# Altium footprint library 封装库.PCBLIB: 282 footprints (part 16 of 18)
Each footprint in its own frame and in the unit in brackets; x right, y up, seen from the top. Pads: shape width x height; smd on the part's side, far side on the other; paste and mask are expansions set on the pad; w line width, h text height; cw(c..) or ccw(c..) is an arc to the next point about the centre after c.
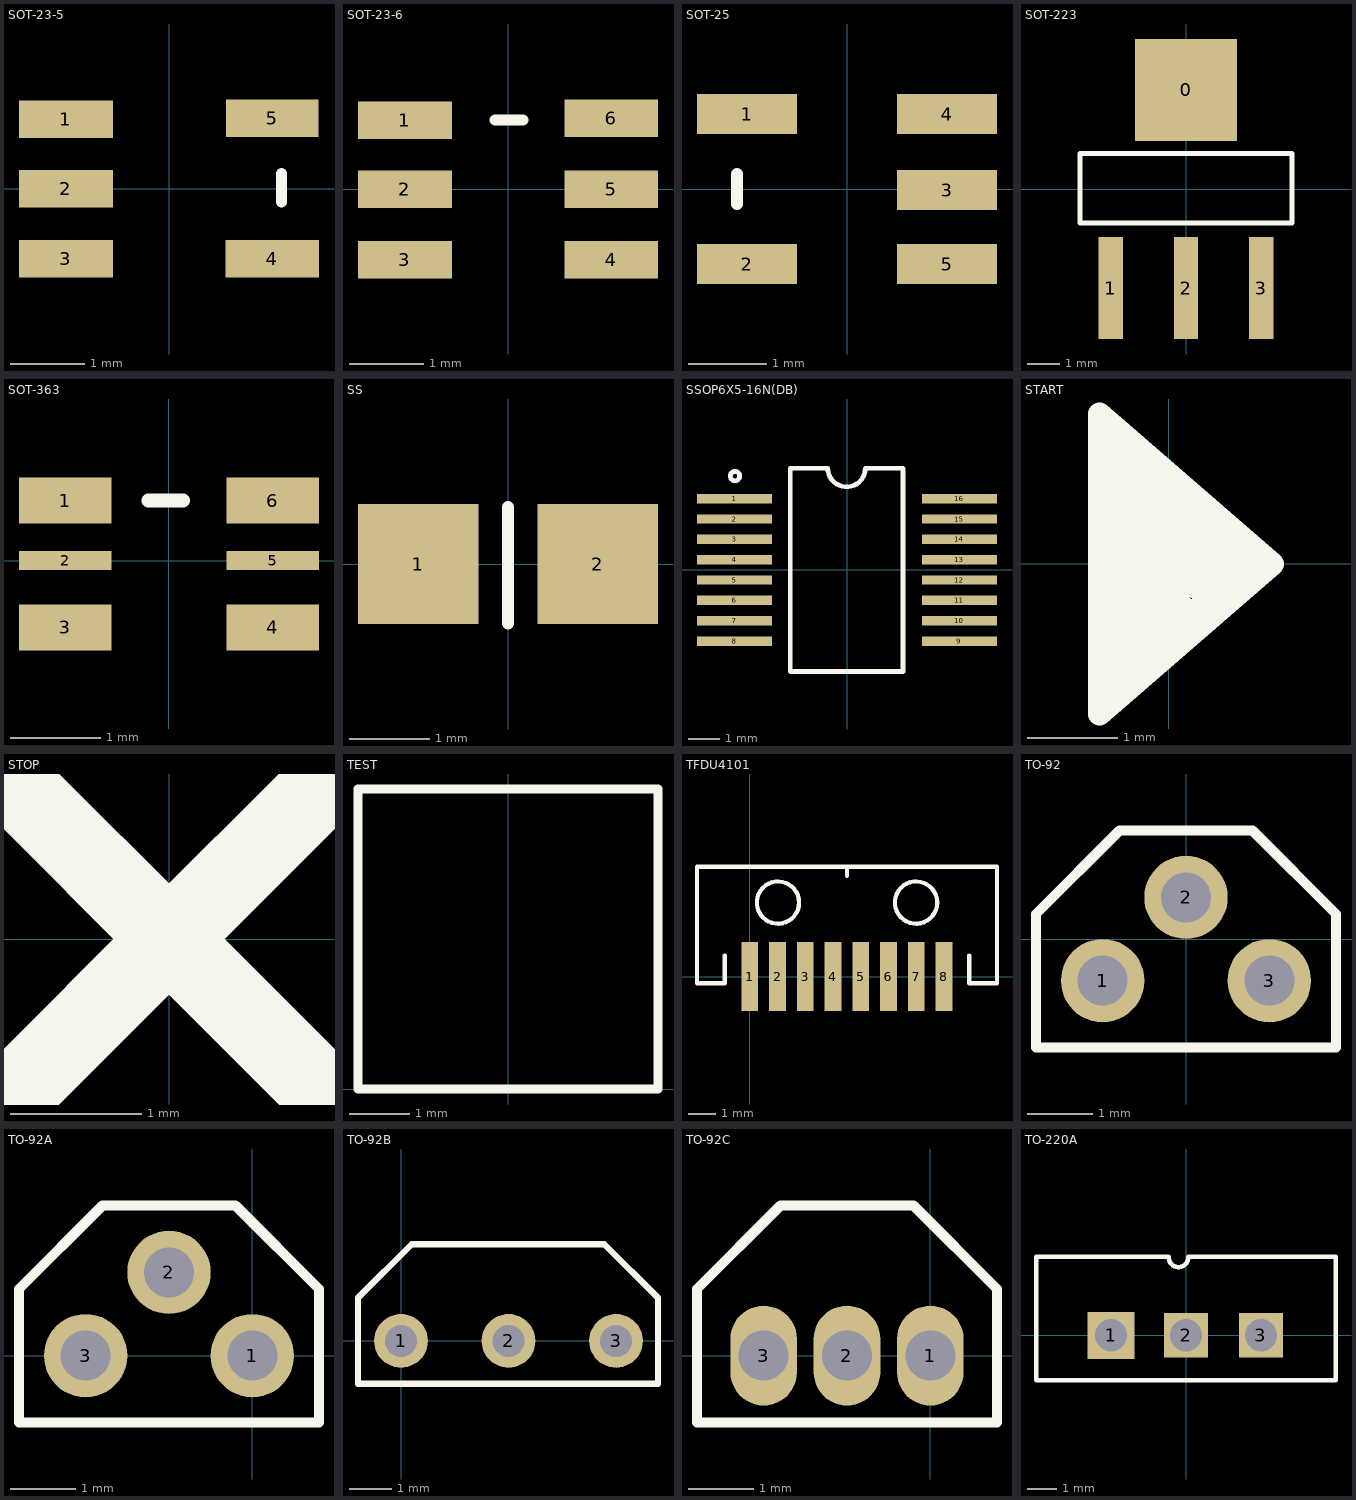
[diagram p15: the footprints below, top view; thin cyan lines are the x and y axes]

## SOT-23-5 [mil]
pads (5):
  rect 50x20 smd: 1(-55,37) 2(-55,0) 3(-55,-37.5) 4(55,-37.5)
  rect 49.21x20 smd: 5(55,37.5)
TopOverlay:
  lines w6: 60,-7 60,8

## SOT-23-6 [mil]
pads (6):
  rect 50x20 smd: 1(-55,36.75) 2(-55,-0.25) 3(-55,-37.75) 4(55,-37.75) 5(55,-0.25) 6(55,37.75)
TopOverlay:
  lines w6: -7,36.75 8,36.75

## SOT-25 [mil]
pads (5):
  rect 50x20 smd: 1(-50,37.5) 2(-50,-37.5) 3(50,-0.5) 4(50,37.5) 5(50,-37.5)
TopOverlay:
  lines w6: -55,-7.5 -55,7.5

## SOT-223 [mm]
pads (4):
  rect 3.1x3.1 smd: 0(0,3.01)
  rect 0.74x3.1 smd: 1(-2.29,-3.01) 2(0,-3.01) 3(2.29,-3.01)
TopOverlay:
  lines w0.152: -3.226,0.419 -3.226,-1.028 ; -0.406,1.079 3.226,1.079 3.226,-1.029 -0.203,-1.029 ; -0.025,-1.029 -3.226,-1.029 ; 0.102,1.079 -3.226,1.079 -3.226,0.165 ; -3.226,-1.029 -3.226,-1.028 ; -3.226,0.165 -3.226,0.165

## SOT-363 [mil]
pads (6):
  rect 40x20 smd: 1(-45,26) 3(-45,-29) 4(45,-29) 6(45,26)
  rect 40x8.27 smd: 2(-45,0) 5(45,0)
TopOverlay:
  lines w6: -9,26 6,26

## SS [mm]
pads (2):
  rect 1.5x1.5 smd: 1(-1.118,0) 2(1.118,0)
TopOverlay:
  lines w0.152: 0,-0.737 0,0.711

## SSOP6X5-16N(DB) [mm]
pads (16):
  rect 2.4x0.3 smd: 1(-3.592,2.275) 2(-3.592,1.625) 3(-3.592,0.975) 4(-3.592,0.325) 5(-3.592,-0.325) 6(-3.592,-0.975) 7(-3.592,-1.625) 8(-3.592,-2.275) 9(3.592,-2.275) 10(3.592,-1.625) 11(3.592,-0.975) 12(3.592,-0.325) 13(3.592,0.325) 14(3.592,0.975) 15(3.592,1.625) 16(3.592,2.275)
TopOverlay:
  circle w0.152: c-3.579,2.997 r0.15
  lines w0.152: -1.813,-3.25 1.787,-3.25 1.787,3.25 0.587,3.25 cw(c-0.013,3.25) -0.613,3.25 -1.813,3.25 -1.813,-3.25

## START [mm]
TopOverlay:
  lines w0.254: -0.576,1.489 -0.547,-1.465 0.928,0.187 -0.573,1.203 0.781,0.022 -0.57,0.883 -0.305,0 -0.24,0.673 -0.102,0 -0.018,0.531 0.051,0 0.415,0.255 0.022,0.224 0.475,-0.32 -0.432,0 0.385,-0.657 -0.559,-0.216 0.043,-0.804 -0.556,-0.556 -0.134,-1.002 -0.551,-1.095 -0.331,-0.794 -0.551,-1.082 0.157,0.062 0.091,0.462 -0.167,0.626 0.236,-0.236 ; -0.762,0 -0.762,-1.651 1.143,0 ; -0.762,0 -0.762,1.651 ; -0.762,0 1.143,0 ; -0.762,1.651 1.143,0 ; -0.762,1.651 1.143,0

## STOP [mm]
TopOverlay:
  lines w0.6: -1.143,-1.143 0,0 ; -1.143,1.143 0,0 ; 1.143,-1.143 0,0 ; 1.143,1.143 0,0

## TEST [mm]
TopOverlay:
  lines w0.152: -2.5,0 -2.5,5 2.5,5 2.5,0 -2.5,0

## TFDU4101 [mm] "TFDU4101"
pads (8):
  rect 0.6x2.5 smd: 1(0,0) 2(1,0) 3(2,0) 4(3,0) 5(4,0) 6(5,0) 7(6,0) 8(7,0)
TopOverlay:
  circle w0.152: c1.016,2.667 r0.762
  circle w0.152: c5.994,2.667 r0.762
  lines w0.152: -0.903,0.755 -0.903,-0.245 -1.903,-0.245 -1.903,3.955 3.505,3.955 ; 3.505,3.632 3.505,3.955 ; 7.913,0.755 7.913,-0.245 8.913,-0.245 8.913,3.955 3.505,3.955

## TO-92 [mil]
pads (3):
  round 50 hole 30: 1(-50,-25) 2(0,25) 3(50,-25)
TopOverlay:
  lines w6: -90,-65 -90,15 -40,65 40,65 90,15 90,-65 -90,-65

## TO-92A [mil]
pads (3):
  round 50 hole 30: 1(0,0) 2(-50,50) 3(-100,0)
TopOverlay:
  lines w6: -140,-40 -140,40 -90,90 -10,90 40,40 40,-40 -140,-40

## TO-92B [mil]
pads (3):
  round 50 hole 30: 1(0,0) 2(100,0) 3(200,0)
TopOverlay:
  lines w6: 69,90 189,90 239,40 239,-14 ; 90,90 10,90 -40,40 -40,-40 140,-40 ; 103,-40 239,-40 239,27

## TO-92C [mil]
pads (3):
  oval 40x60 hole 30: 1(0,0) 2(-50,0) 3(-100,0)
TopOverlay:
  lines w6: -140,-40 -140,40 -90,90 -10,90 40,40 40,-40 -140,-40

## TO-220A [mm]
pads (3):
  rect 1.6x1.6 hole 1.1: 1(-2.54,0)
  rect 1.5x1.5 hole 1.1: 2(0,0) 3(2.54,0)
TopOverlay:
  lines w0.152: -5.08,0 -5.08,0.762 ; -5.08,0.254 -5.08,-1.524 ; -5.029,2.667 -0.584,2.667 ccw(c-0.254,2.642) 0.076,2.672 4.932,2.672 ; -4.496,2.667 -5.08,2.667 -5.08,-1.524 ; 3.861,2.672 5.075,2.672 5.08,2.667 5.08,-1.524 4.572,-1.524 -4.572,-1.524 -5.08,-1.524